# Altium footprint library SRU1048-330Y.PcbLib: 1 footprints
Each footprint in its own frame and in the unit in brackets; x right, y up, seen from the top. Pads: shape width x height; smd on the part's side, far side on the other; paste and mask are expansions set on the pad; w line width, h text height; cw(c..) or ccw(c..) is an arc to the next point about the centre after c.
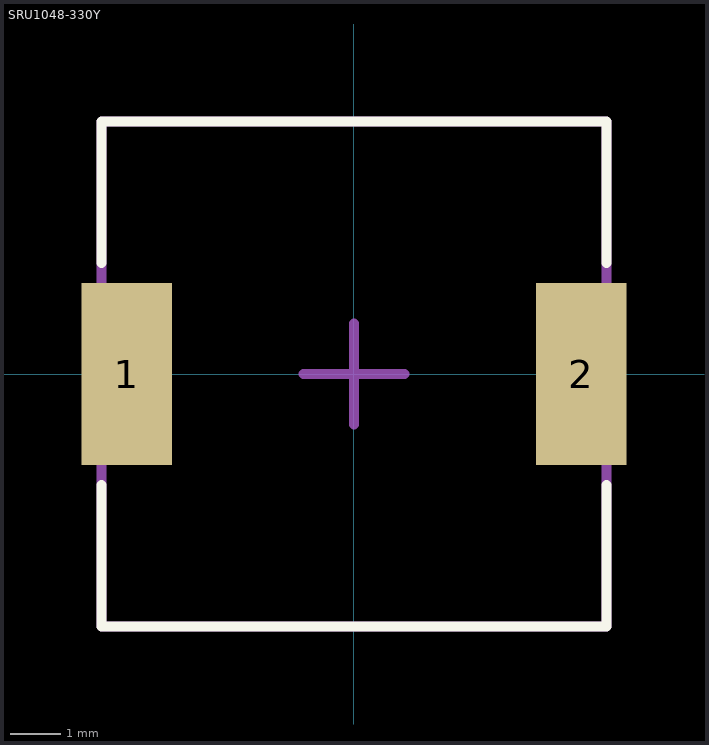
[diagram p0: the footprint, top view; thin cyan lines are the x and y axes]

## SRU1048-330Y [mm]
pads (2):
  rect 1.8x3.6 smd: 1(-4.5,0) 2(4.5,0)
Top Overlay:
  lines w0.2: -5,-2.2 -5,-5 5,-5 5,-2.2 ; -5,2.2 -5,5 5,5 5,2.2
Mechanical 13:
  lines w0.2: -5,-5 -5,5 5,5 5,-5 -5,-5
Mechanical 15:
  lines w0.2: -1,0 0,0 ; 0,-1 0,0 ; 1,0 0,0 ; 0,0 0,1 0,0
3D body "sru1048-330y.stp": height 4.6, standoff -0.2, extent -5,-5 5,5